# Altium footprint library 0805.PcbLib: 1 footprints
Each footprint in its own frame and in the unit in brackets; x right, y up, seen from the top. Pads: shape width x height; smd on the part's side, far side on the other; paste and mask are expansions set on the pad; w line width, h text height; cw(c..) or ccw(c..) is an arc to the next point about the centre after c.
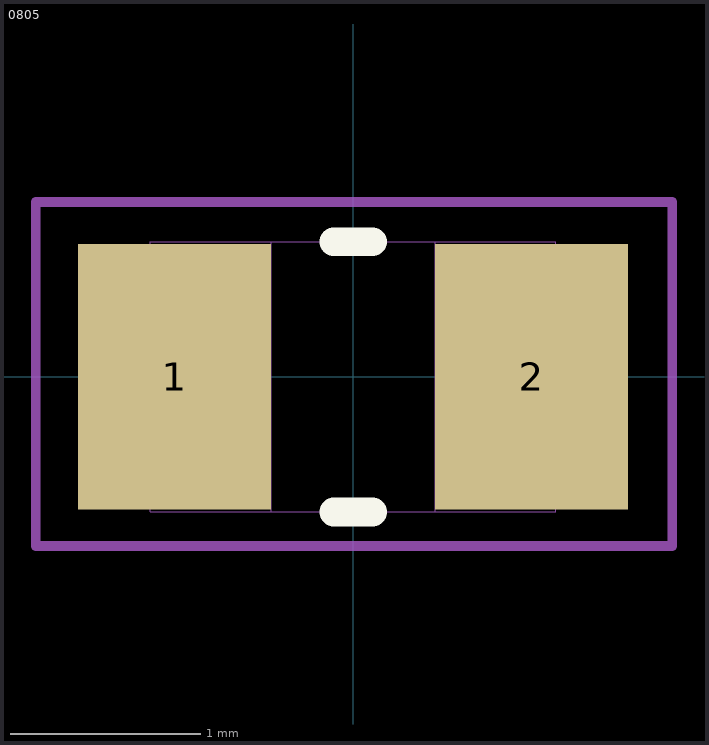
[diagram p0: the footprint, top view; thin cyan lines are the x and y axes]

## 0805 [mil]
pads (2):
  rect 40x55 smd: 1(-37,0) 2(37,0)
Top Overlay:
  lines w6: -4,-28 4,-28 ; -4,28 4,28
Mechanical 1:
  lines w0: -17,-28 -17,28 ; -17,-28 -42,-28 -42,28 -17,28 ; -17,-28 17,-28 ; -17,28 17,28 ; 17,-28 17,28 ; 17,-28 42,-28 42,28 17,28
Mechanical 15:
  lines w2.01: -65.75,-35.04 -65.75,36.22 66.14,36.22 66.14,-35.04 -65.75,-35.04
3D body: height 23.62, standoff 0, extent -47.24,-27.56 47.24,27.56